# Altium schematic symbol library RE0201BRE07150KL.SchLib: 1 symbol
Pins are listed as number, name and electrical type; pins without a type are passive.

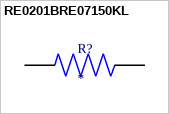
[diagram p0: symbol RE0201BRE07150KL]

## RE0201BRE07150KL
designator R?
150 kOhms Â±0.1% 0.05W, 1/20W Chip Resistor 0201 (0603 Metric) Thick Film; MF: Yageo; MP: RE0201BRE07150KL; SnapEDA_Link: https://www.snapeda.com/parts/RE0201BRE07150KL/Yageo/view-part/?ref=snap; Package: 0603 Rohm Semiconductor; Value: *; Check_prices: https://www.snapeda.com/parts/RE0201BRE07150KL/Yageo/view-part/?ref=eda
footprint RESC0603X26N
pins: 1, 2